# EAGLE library part DS1307 (library ltc6802)
64 x 8, Serial, I2C Real-Time Clock
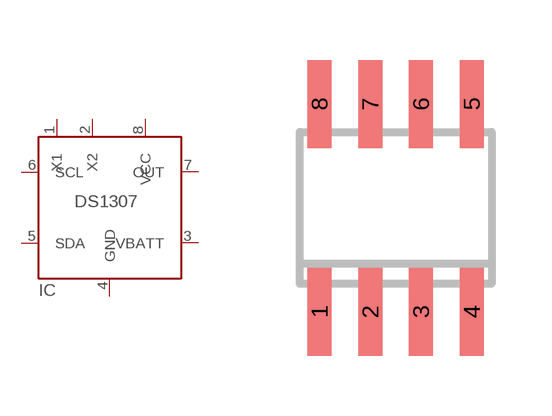
[diagram p1: symbol with the pads of SO08; footprint SO08]

Designator prefix IC

## DS1307  [SO08]
1  X1
2  X2
3  VBATT  pwr
4  GND  pwr
5  SDA
6  SCL
7  OUT  out
8  VCC  pwr

## Footprint SO08 (pad centres in mm)
SMALL OUTLINE INTEGRATED CIRCUIT body 3.9 mm/JEDEC MS-012AA
smd 0.6 x 2.2: 1 -1.905,-2.6; 2 -0.635,-2.6; 3 0.635,-2.6; 4 1.905,-2.6; 5 1.905,2.6; 6 0.635,2.6; 7 -0.635,2.6; 8 -1.905,2.6